# Altium schematic symbol library VMA402.SchLib: 1 symbol
Pins are listed as number, name and electrical type; pins without a type are passive.

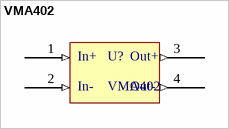
[diagram p0: symbol VMA402]

## VMA402
designator U?
Voltage regulator
pins: 1 (in), 2 (in), 3 (out), 4 (out)
text: In+; Out+; In-; Out-